# EAGLE library part ADC_MCP355X* (library mike-temp)
Microchip MCP3550/1/3 22-bit Delta-Sigma Analog-to-Digital Converters (ADCs) The Microchip Technology Inc. MCP3550/1/3 devices are 2.7V to 5.5V low-power, 22-bit Delta-Sigma Analog-to-Digital Converters (ADCs). The devices offer output noise as low as 2.5 ?VRMS, with a total unadjusted error of 10 ppm. The family exhibits 6 ppm Integral Non-Linearity (INL) error, 3 ?V offset error and less than 2 ppm full scale error. The MCP3550/1/3 devices provide high accuracy and low noise performance for applications where sensor measurements (such as pressure, temperature and humidity) are performed. With the internal oscillator and high oversampling rate, minimal external components are required for high-accuracy applications. This product line has fully differential analog inputs, making it compatible with a wide variety of sensor, industrial control or process control applications. The MCP3550/1/3 devices operate from -40°C to +125°C and are available in the space-saving 8-pin MSOP and SOIC packages.
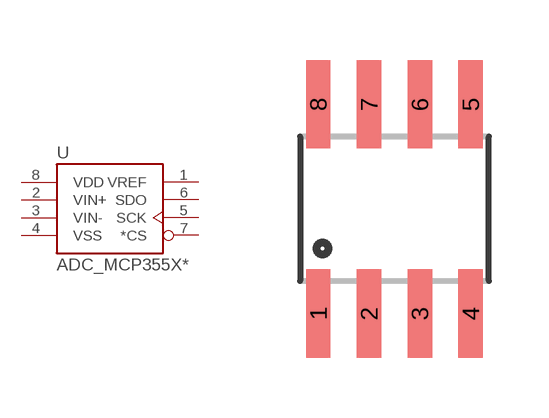
[diagram p0: symbol with the pads of SOIC8; footprint SOIC8]

Designator prefix U

## ADC_MCP355X-SOIC  [SOIC8]
1  VREF  pwr
2  VIN+
3  VIN-
4  VSS  pwr
5  SCK
6  SDO
7  *CS
8  VDD  pwr

## Footprint SOIC8 (pad centres in mm)
smd 0.61 x 2.21: 1 -1.905,-2.616; 2 -0.635,-2.616; 3 0.635,-2.616; 4 1.905,-2.616; 5 1.905,2.616; 6 0.635,2.616; 7 -0.635,2.616; 8 -1.905,2.616